# EAGLE library part PT2399 (library !synth_sch)
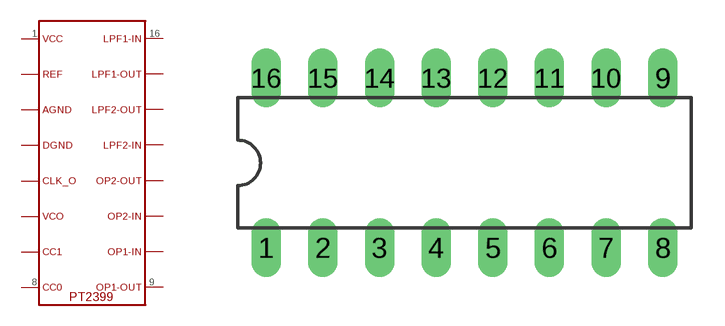
[diagram p2: symbol with the pads of PT2399; footprint PT2399]

Designator prefix -

## PT2399  [PT2399]
1  P$1
2  P$2
3  P$3
4  P$4
5  P$5
6  P$6
7  P$7
8  P$8
9  P$9
10  P$10
11  P$11
12  P$12
13  P$13
14  P$14
15  P$15
16  P$16

## Footprint PT2399 (pad centres in mm)
drill 0.813 long: 1 0,-2.54; 2 2.54,-2.54; 3 5.08,-2.54; 4 7.62,-2.54; 5 10.16,-2.54; 6 12.7,-2.54; 7 15.24,-2.54; 8 17.78,-2.54; 9 17.78,5.08; 10 15.24,5.08; 11 12.7,5.08; 12 10.16,5.08; 13 7.62,5.08; 14 5.08,5.08; 15 2.54,5.08; 16 0,5.08